# Altium footprint library SRN1060-101M.PcbLib: 1 footprints
Each footprint in its own frame and in the unit in brackets; x right, y up, seen from the top. Pads: shape width x height; smd on the part's side, far side on the other; paste and mask are expansions set on the pad; w line width, h text height; cw(c..) or ccw(c..) is an arc to the next point about the centre after c.
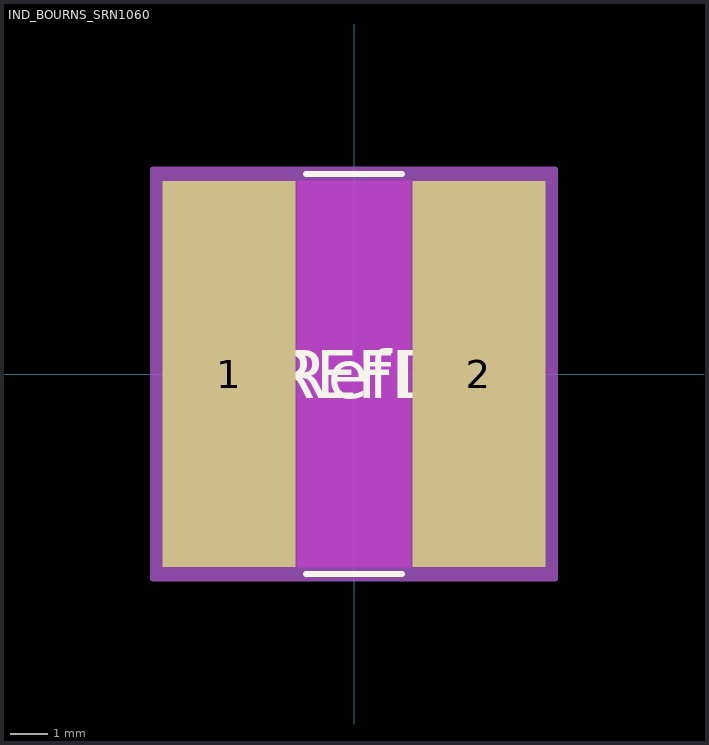
[diagram p0: the footprint, top view; thin cyan lines are the x and y axes]

## IND_BOURNS_SRN1060 [mil]
pads (2):
  rect 138x402 smd paste+0 mask+0: 1(-130,0) 2(130,0)
Top Layer keep-out:
  region: -59,-201 -59,201 59,201 59,-201
Top Overlay:
  lines w6: -49.93,-208 49.93,-208 ; -49.93,208 49.93,208
  text "RefDes" at -75,-25 h50
  text "REFDES" at -87.5,-25 h50
Mechanical 13:
  circle w0: c-196,0 r0
  lines w1: -199,-203 199,-203 199,203 -199,203 -199,-203
  text "RefDes2" at -87.5,-25 h50
Mechanical 15:
  region: -209,-211 -209,211 -209,213 209,213 209,211 209,-211 209,-213 -209,-213
  lines w6: -209,-211 -209,211 ; -209,-211 -209,-211 ; -209,-211 -209,-213 209,-213 209,-211 ; -209,211 -209,211 ; -209,211 -209,213 209,213 209,211 ; 209,-211 209,211 ; 209,-211 209,-211 ; 209,211 209,211
3D body "IND_BOURNS_SRN1060.step": height 235.98, standoff 0, extent -199.02,-203.11 199.02,203.11